# EAGLE library part MSTBV12 (library con-phoenix-508)
PHOENIX
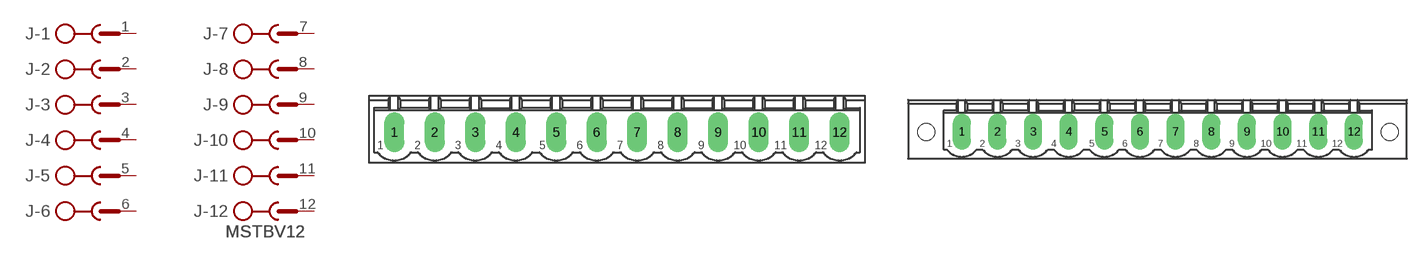
[diagram p63: symbol with the pads of MSTBV12; footprints MSTBV12, MSTBV12-GF]

Designator prefix J; gates -1=SK -2=SK -3=SK -4=SK -5=SK -6=SK -7=SK -8=SK -9=SK -10=SK -11=SK -12=SKV

## MSTBV12  [MSTBV12]
1  -1:1  pas
2  -2:1  pas
3  -3:1  pas
4  -4:1  pas
5  -5:1  pas
6  -6:1  pas
7  -7:1  pas
8  -8:1  pas
9  -9:1  pas
10  -10:1  pas
11  -11:1  pas
12  -12:1  pas

## MSTBV12-GF  [MSTBV12-GF]
Pads as for MSTBV12

## Footprint MSTBV12 (pad centres in mm)
PHOENIX
drill 1.397 pad 2.54 long: 1 -27.94,0; 2 -22.86,0; 3 -17.78,0; 4 -12.7,0; 5 -7.62,0; 6 -2.54,0; 7 2.54,0; 8 7.62,0; 9 12.7,0; 10 17.78,0; 11 22.86,0; 12 27.94,0

## Footprint MSTBV12-GF (pad centres in mm)
PHOENIX
drill 1.397 pad 2.54 long: 1 -27.94,0; 2 -22.86,0; 3 -17.78,0; 4 -12.7,0; 5 -7.62,0; 6 -2.54,0; 7 2.54,0; 8 7.62,0; 9 12.7,0; 10 17.78,0; 11 22.86,0; 12 27.94,0
hole 2.4 at -33.02,0
hole 2.4 at 33.02,0